# EAGLE library part CD4013 (library SparkFun-IC-Logic)
Dual D-type Flip-Flop Datasheet <https://cdn.sparkfun.com/datasheets/Kits/CD4013B.pdf> SparkFun Products SparkFun SparkPunk Sound Kit <https://www.sparkfun.com/products/11177> (KIT-11177) SparkFun SparkPunk Sequencer Kit <https://www.sparkfun.com/products/12707> (KIT-12707)
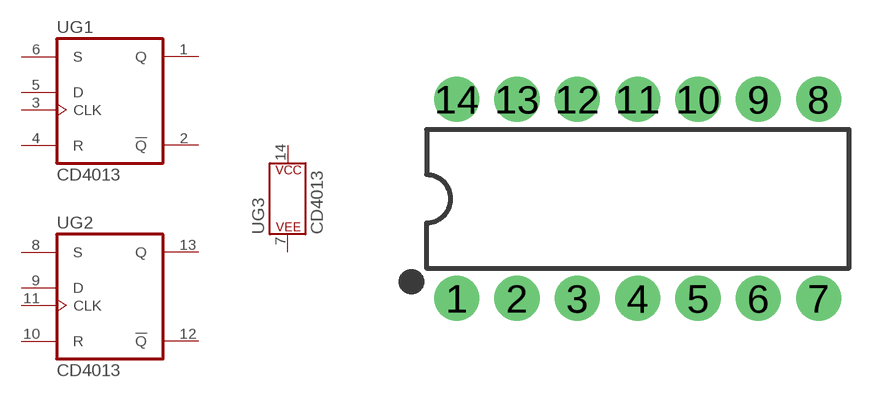
[diagram p10: symbol with the pads of DIP14-KIT; footprint DIP14-KIT]

Designator prefix U; gates G1=CD4013 G2=CD4013 G3=POWER_CONSORT

## CD4013 (PROD_ID: IC-11896; VALUE: CD4013B)  [DIP14-KIT]
1  G1:Q  out
2  G1:!Q  out
3  G1:CLK  in
4  G1:R  in
5  G1:D  in
6  G1:S  in
7  G3:P$V-
8  G2:S  in
9  G2:D  in
10  G2:R  in
11  G2:CLK  in
12  G2:!Q  out
13  G2:Q  out
14  G3:P$V+

## Footprint DIP14-KIT (pad centres in mm)
drill 0.864 pad 1.905: 1 -8.89,-4.191; 2 -6.35,-4.191; 3 -3.81,-4.191; 4 -1.27,-4.191; 5 1.27,-4.191; 6 3.81,-4.191; 7 6.35,-4.191; 8 6.35,4.191; 9 3.81,4.191; 10 1.27,4.191; 11 -1.27,4.191; 12 -3.81,4.191; 13 -6.35,4.191; 14 -8.89,4.191